# EAGLE library part LM5106 (library mosfet_drivers)
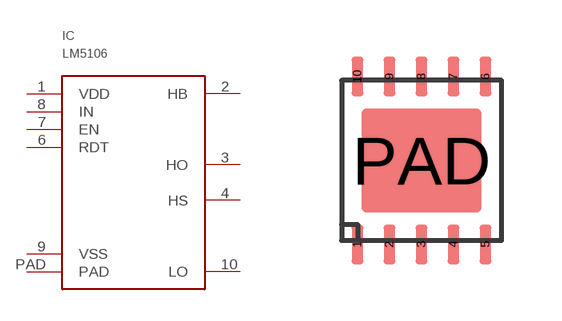
[diagram p1: symbol with the pads of 10WSON; footprint 10WSON]

Designator prefix IC

## LM5106  [10WSON]
1  VDD
2  HB
3  HO
4  HS
6  RDT
7  EN
8  IN
9  VSS
10  LO
PAD  PAD

## Footprint 10WSON (pad centres in mm)
smd 0.3 x 1: 1 -1.6,-2.1; 2 -0.8,-2.1; 3 0,-2.1; 4 0.8,-2.1; 5 1.6,-2.1; 6 1.6,2.1; 7 0.8,2.1; 8 0,2.1; 9 -0.8,2.1; 10 -1.6,2.1
smd 3 x 2.6: PAD 0,0